# EAGLE library part DS90CR288 (library LVDS)
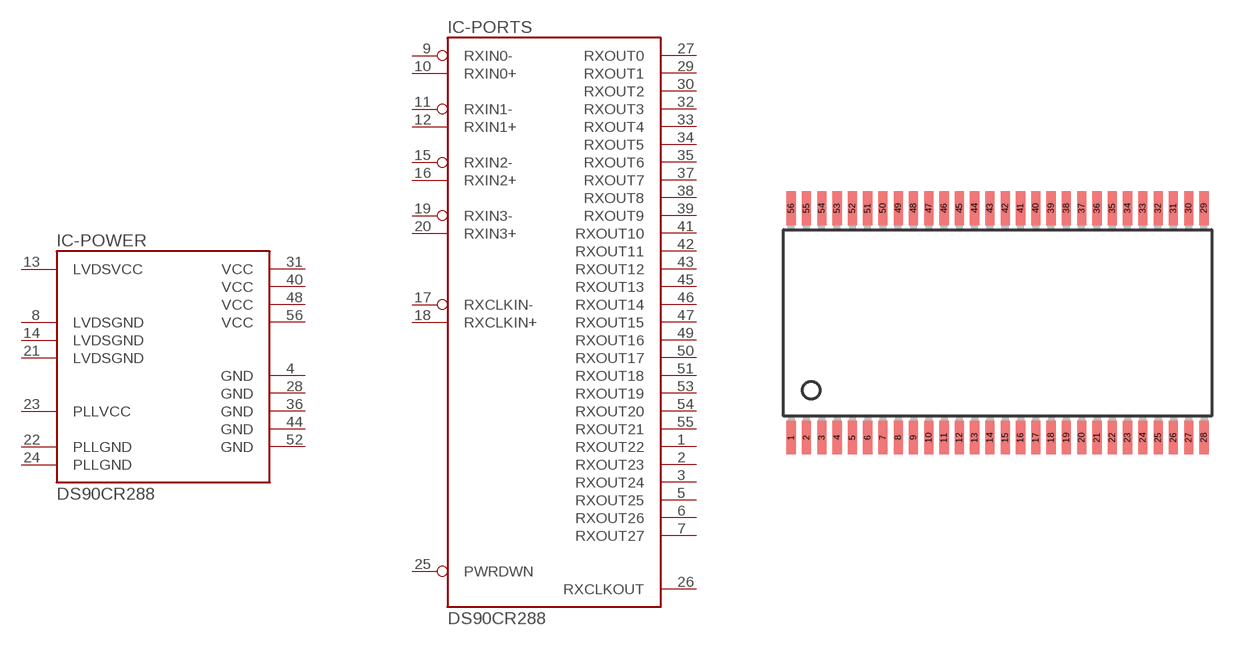
[diagram p0: symbol with the pads of HTSSOP56; footprint HTSSOP56]

Designator prefix IC; gates -POWER=DS90CR288POWER -PORTS=DS90CR288

## DS90CR288  [HTSSOP56]
1  -PORTS:RXOUT22
2  -PORTS:RXOUT23
3  -PORTS:RXOUT24
4  -POWER:GND
5  -PORTS:RXOUT25
6  -PORTS:RXOUT26
7  -PORTS:RXOUT27
8  -POWER:LVDSGND
9  -PORTS:RXIN0-
10  -PORTS:RXIN0+
11  -PORTS:RXIN1-
12  -PORTS:RXIN1+
13  -POWER:LVDSVCC
14  -POWER:LVDSGND
15  -PORTS:RXIN2-
16  -PORTS:RXIN2+
17  -PORTS:RXCLKIN-
18  -PORTS:RXCLKIN+
19  -PORTS:RXIN3-
20  -PORTS:RXIN3+
21  -POWER:LVDSGND
22  -POWER:PLLGND
23  -POWER:PLLVCC
24  -POWER:PLLGND
25  -PORTS:PWRDWN
26  -PORTS:RXCLKOUT
27  -PORTS:RXOUT0
28  -POWER:GND
29  -PORTS:RXOUT1
30  -PORTS:RXOUT2
31  -POWER:VCC
32  -PORTS:RXOUT3
33  -PORTS:RXOUT4
34  -PORTS:RXOUT5
35  -PORTS:RXOUT6
36  -POWER:GND
37  -PORTS:RXOUT7
38  -PORTS:RXOUT8
39  -PORTS:RXOUT9
40  -POWER:VCC
41  -PORTS:RXOUT10
42  -PORTS:RXOUT11
43  -PORTS:RXOUT12
44  -POWER:GND
45  -PORTS:RXOUT13
46  -PORTS:RXOUT14
47  -PORTS:RXOUT15
48  -POWER:VCC
49  -PORTS:RXOUT16
50  -PORTS:RXOUT17
51  -PORTS:RXOUT18
52  -POWER:GND
53  -PORTS:RXOUT19
54  -PORTS:RXOUT20
55  -PORTS:RXOUT21
56  -POWER:VCC

## Footprint HTSSOP56 (pad centres in mm)
smd 0.3 x 1.1: 1 -6.75,-3.75; 2 -6.25,-3.75; 3 -5.75,-3.75; 4 -5.25,-3.75; 5 -4.75,-3.75; 6 -4.25,-3.75; 7 -3.75,-3.75; 8 -3.25,-3.75; 9 -2.75,-3.75; 10 -2.25,-3.75; 11 -1.75,-3.75; 12 -1.25,-3.75; 13 -0.75,-3.75; 14 -0.25,-3.75; 15 0.25,-3.75; 16 0.75,-3.75; 17 1.25,-3.75; 18 1.75,-3.75; 19 2.25,-3.75; 20 2.75,-3.75; 21 3.25,-3.75; 22 3.75,-3.75; 23 4.25,-3.75; 24 4.75,-3.75; 25 5.25,-3.75; 26 5.75,-3.75; 27 6.25,-3.75; 28 6.75,-3.75; 29 6.75,3.75; 30 6.25,3.75; 31 5.75,3.75; 32 5.25,3.75; 33 4.75,3.75; 34 4.25,3.75; 35 3.75,3.75; 36 3.25,3.75; 37 2.75,3.75; 38 2.25,3.75; 39 1.75,3.75; 40 1.25,3.75; 41 0.75,3.75; 42 0.25,3.75; 43 -0.25,3.75; 44 -0.75,3.75; 45 -1.25,3.75; 46 -1.75,3.75; 47 -2.25,3.75; 48 -2.75,3.75; 49 -3.25,3.75; 50 -3.75,3.75; 51 -4.25,3.75; 52 -4.75,3.75; 53 -5.25,3.75; 54 -5.75,3.75; 55 -6.25,3.75; 56 -6.75,3.75